# Altium footprint library PV36W204A01B00.PcbLib: 1 footprints
Each footprint in its own frame and in the unit in brackets; x right, y up, seen from the top. Pads: shape width x height; smd on the part's side, far side on the other; paste and mask are expansions set on the pad; w line width, h text height; cw(c..) or ccw(c..) is an arc to the next point about the centre after c.
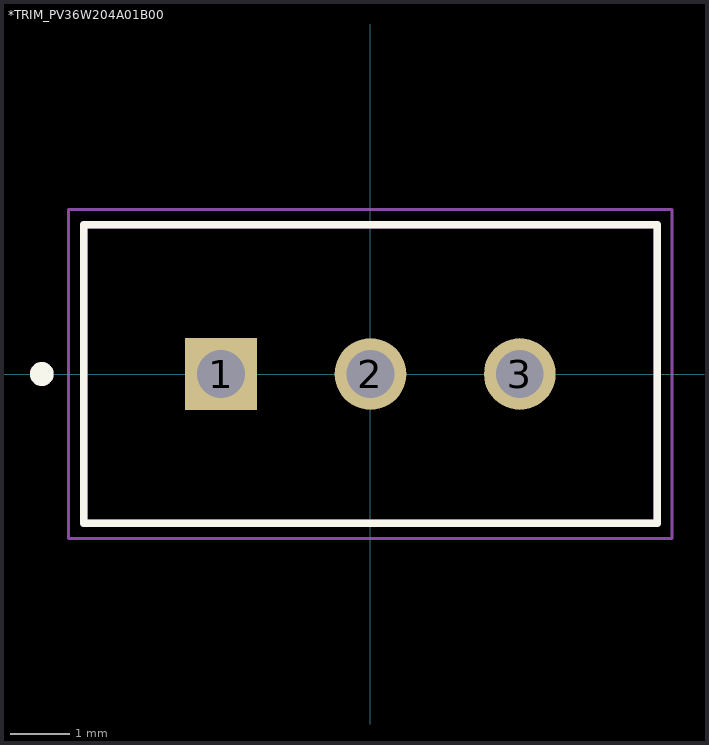
[diagram p0: the footprint, top view; thin cyan lines are the x and y axes]

## *TRIM_PV36W204A01B00 [mm]
pads (3):
  rect 1.2x1.2 hole 0.8: 1(-2.5,0)
  round 1.2 hole 0.8: 2(0,0) 3(2.5,0)
Top Overlay:
  circle w0.2: c-5.5,0 r0.1
  lines w0.127: -4.8,-2.5 4.8,-2.5 4.8,2.5 -4.8,2.5 -4.8,-2.5
Mechanical 13:
  circle w0.2: c-5.5,0 r0.1
  circle w0.2: c-5.5,0 r0.1
  lines w0.127: -4.8,-2.5 4.8,-2.5 ; -4.8,-2.5 -4.8,2.5 ; -4.8,-2.5 4.8,-2.5 ; -4.8,-2.5 -4.8,2.5 ; -4.8,2.5 4.8,2.5 ; -4.8,2.5 4.8,2.5 ; 4.8,-2.5 4.8,2.5 ; 4.8,-2.5 4.8,2.5
Mechanical 16:
  lines w0.05: -5.05,-2.75 5.05,-2.75 5.05,2.75 -5.05,2.75 -5.05,-2.75